# Altium schematic symbol library PTN3366.Schlib: 1 symbol
Pins are listed as number, name and electrical type; pins without a type are passive.

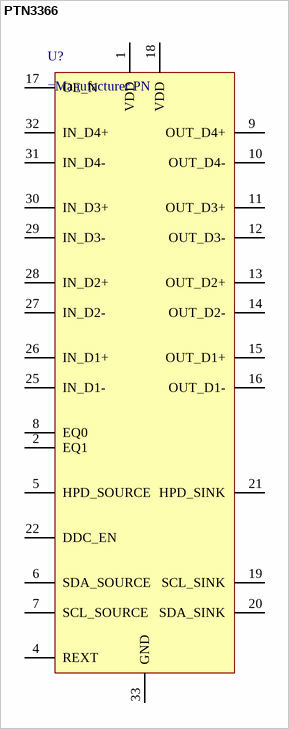
[diagram p0: symbol PTN3366]

## PTN3366
designator U?
Video Level Shifter
pins: 1 VDD, 2 EQ1, 3 NC hidden, 4 REXT, 5 HPD_SOURCE, 6 SDA_SOURCE, 7 SCL_SOURCE, 8 EQ0, 9 OUT_D4+, 10 OUT_D4-, 11 OUT_D3+, 12 OUT_D3-, 13 OUT_D2+, 14 OUT_D2-, 15 OUT_D1+, 16 OUT_D1-, 17 OE_N, 18 VDD, 19 SCL_SINK, 20 SDA_SINK, 21 HPD_SINK, 22 DDC_EN, 23 NC hidden, 24 NC hidden, 25 IN_D1-, 26 IN_D1+, 27 IN_D2-, 28 IN_D2+, 29 IN_D3-, 30 IN_D3+, 31 IN_D4-, 32 IN_D4+, 33 GND